# EAGLE library part HFR120RA (library con-thomas-betts)
THOMAS&BETTS
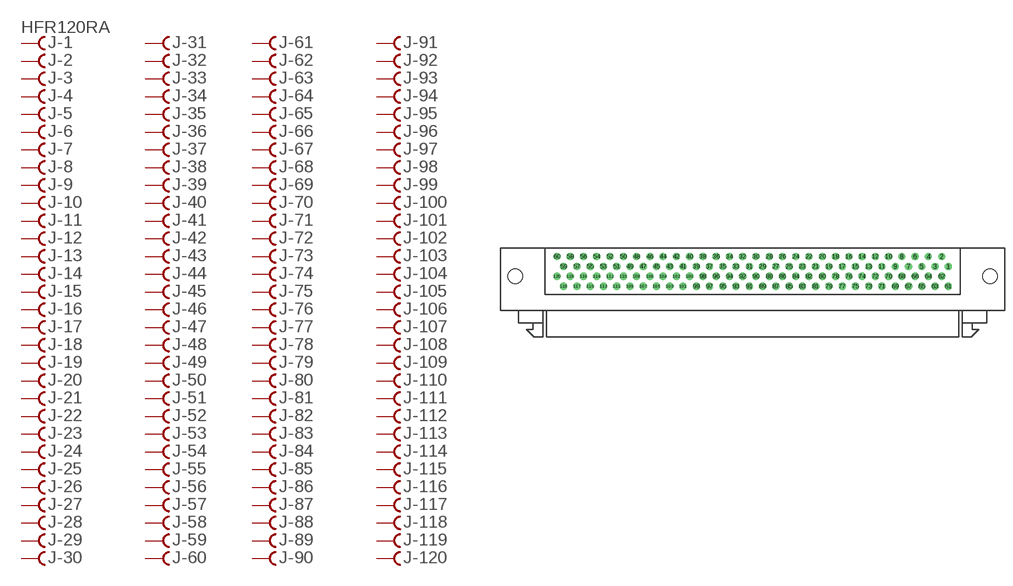
[diagram p5: symbol with the pads of HFR120RA; footprint HFR120RA]

Designator prefix J; gates -1=FV -2=F -3=F -4=F -5=F -6=F -7=F -8=F -9=F -10=F -11=F -12=F -13=F -14=F -15=F -16=F -17=F -18=F -19=F -20=F -21=F -22=F -23=F -24=F -25=F -26=F -27=F -28=F -29=F -30=F -32=F -33=F -34=F -35=F -36=F -37=F -38=F -39=F -40=F -41=F -42=F -43=F -44=F -45=F -46=F -47=F -48=F -49=F -50=F -51=F -52=F -53=F -54=F -55=F -56=F -57=F -58=F -59=F -60=F -62=F -63=F -64=F -65=F -66=F -67=F -68=F -69=F -70=F -71=F -72=F -73=F -74=F -75=F -76=F -77=F -78=F -79=F -80=F -81=F -82=F -83=F -84=F -85=F -86=F -87=F -88=F -89=F -90=F -92=F -93=F -94=F -95=F -96=F -97=F -98=F -99=F -100=F -101=F -102=F -103=F -104=F -105=F -106=F -107=F -108=F -109=F -110=F -111=F -112=F -113=F -114=F -115=F -116=F -117=F -118=F -119=F -120=F -31=F -61=F -91=F

## HFR120RA  [HFR120RA]
1  -1:F  pas
2  -2:F  pas
3  -3:F  pas
4  -4:F  pas
5  -5:F  pas
6  -6:F  pas
7  -7:F  pas
8  -8:F  pas
9  -9:F  pas
10  -10:F  pas
11  -11:F  pas
12  -12:F  pas
13  -13:F  pas
14  -14:F  pas
15  -15:F  pas
16  -16:F  pas
17  -17:F  pas
18  -18:F  pas
19  -19:F  pas
20  -20:F  pas
21  -21:F  pas
22  -22:F  pas
23  -23:F  pas
24  -24:F  pas
25  -25:F  pas
26  -26:F  pas
27  -27:F  pas
28  -28:F  pas
29  -29:F  pas
30  -30:F  pas
31  -31:F  pas
32  -32:F  pas
33  -33:F  pas
34  -34:F  pas
35  -35:F  pas
36  -36:F  pas
37  -37:F  pas
38  -38:F  pas
39  -39:F  pas
40  -40:F  pas
41  -41:F  pas
42  -42:F  pas
43  -43:F  pas
44  -44:F  pas
45  -45:F  pas
46  -46:F  pas
47  -47:F  pas
48  -48:F  pas
49  -49:F  pas
50  -50:F  pas
51  -51:F  pas
52  -52:F  pas
53  -53:F  pas
54  -54:F  pas
55  -55:F  pas
56  -56:F  pas
57  -57:F  pas
58  -58:F  pas
59  -59:F  pas
60  -60:F  pas
61  -61:F  pas
62  -62:F  pas
63  -63:F  pas
64  -64:F  pas
65  -65:F  pas
66  -66:F  pas
67  -67:F  pas
68  -68:F  pas
69  -69:F  pas
70  -70:F  pas
71  -71:F  pas
72  -72:F  pas
73  -73:F  pas
74  -74:F  pas
75  -75:F  pas
76  -76:F  pas
77  -77:F  pas
78  -78:F  pas
79  -79:F  pas
80  -80:F  pas
81  -81:F  pas
82  -82:F  pas
83  -83:F  pas
84  -84:F  pas
85  -85:F  pas
86  -86:F  pas
87  -87:F  pas
88  -88:F  pas
89  -89:F  pas
90  -90:F  pas
91  -91:F  pas
92  -92:F  pas
93  -93:F  pas
94  -94:F  pas
95  -95:F  pas
96  -96:F  pas
97  -97:F  pas
98  -98:F  pas
99  -99:F  pas
100  -100:F  pas
101  -101:F  pas
102  -102:F  pas
103  -103:F  pas
104  -104:F  pas
105  -105:F  pas
106  -106:F  pas
107  -107:F  pas
108  -108:F  pas
109  -109:F  pas
110  -110:F  pas
111  -111:F  pas
112  -112:F  pas
113  -113:F  pas
114  -114:F  pas
115  -115:F  pas
116  -116:F  pas
117  -117:F  pas
118  -118:F  pas
119  -119:F  pas
120  -120:F  pas

## Footprint HFR120RA (pad centres in mm)
THOMAS&BETTS
drill 0.864 octagon: 1 37.465,6.985
drill 0.864: 2 36.195,8.89; 3 34.925,6.985; 4 33.655,8.89; 5 32.385,6.985; 6 31.115,8.89; 7 29.845,6.985; 8 28.575,8.89; 9 27.305,6.985; 10 26.035,8.89; 11 24.765,6.985; 12 23.495,8.89; 13 22.225,6.985; 14 20.955,8.89; 15 19.685,6.985; 16 18.415,8.89; 17 17.145,6.985; 18 15.875,8.89; 19 14.605,6.985; 20 13.335,8.89; 21 12.065,6.985; 22 10.795,8.89; 23 9.525,6.985; 24 8.255,8.89; 25 6.985,6.985; 26 5.715,8.89; 27 4.445,6.985; 28 3.175,8.89; 29 1.905,6.985; 30 0.635,8.89; 31 -0.635,6.985; 32 -1.905,8.89; 33 -3.175,6.985; 34 -4.445,8.89; 35 -5.715,6.985; 36 -6.985,8.89; 37 -8.255,6.985; 38 -9.525,8.89; 39 -10.795,6.985; 40 -12.065,8.89; 41 -13.335,6.985; 42 -14.605,8.89; 43 -15.875,6.985; 44 -17.145,8.89; 45 -18.415,6.985; 46 -19.685,8.89; 47 -20.955,6.985; 48 -22.225,8.89; 49 -23.495,6.985; 50 -24.765,8.89; 51 -26.035,6.985; 52 -27.305,8.89; 53 -28.575,6.985; 54 -29.845,8.89; 55 -31.115,6.985; 56 -32.385,8.89; 57 -33.655,6.985; 58 -34.925,8.89; 59 -36.195,6.985; 60 -37.465,8.89; 61 37.465,3.175; 62 36.195,5.08; 63 34.925,3.175; 64 33.655,5.08; 65 32.385,3.175; 66 31.115,5.08; 67 29.845,3.175; 68 28.575,5.08; 69 27.305,3.175; 70 26.035,5.08; 71 24.765,3.175; 72 23.495,5.08; 73 22.225,3.175; 74 20.955,5.08; 75 19.685,3.175; 76 18.415,5.08; 77 17.145,3.175; 78 15.875,5.08; 79 14.605,3.175; 80 13.335,5.08; 81 12.065,3.175; 82 10.795,5.08; 83 9.525,3.175; 84 8.255,5.08; 85 6.985,3.175; 86 5.715,5.08; 87 4.445,3.175; 88 3.175,5.08; 89 1.905,3.175; 90 0.635,5.08; 91 -0.635,3.175; 92 -1.905,5.08; 93 -3.175,3.175; 94 -4.445,5.08; 95 -5.715,3.175; 96 -6.985,5.08; 97 -8.255,3.175; 98 -9.525,5.08; 99 -10.795,3.175; 100 -12.065,5.08; 101 -13.335,3.175; 102 -14.605,5.08; 103 -15.875,3.175; 104 -17.145,5.08; 105 -18.415,3.175; 106 -19.685,5.08; 107 -20.955,3.175; 108 -22.225,5.08; 109 -23.495,3.175; 110 -24.765,5.08; 111 -26.035,3.175; 112 -27.305,5.08; 113 -28.575,3.175; 114 -29.845,5.08; 115 -31.115,3.175; 116 -32.385,5.08; 117 -33.655,3.175; 118 -34.925,5.08; 119 -36.195,3.175; 120 -37.465,5.08
hole 2.769 at 45.466,5.08
hole 2.769 at -45.466,5.08